# EAGLE library part SI5338Q-B-GM (library SI5338Q-B-GM)
Clock Generators & Support Products I2C control, 4-output, any frequency (< 200 MHz), any output, clock generator (2 diff, 2 SE) Source: Datasheet <https://www.skyworksinc.com/-/media/SkyWorks/SL/documents/public/data-sheets/Si5338.pdf>
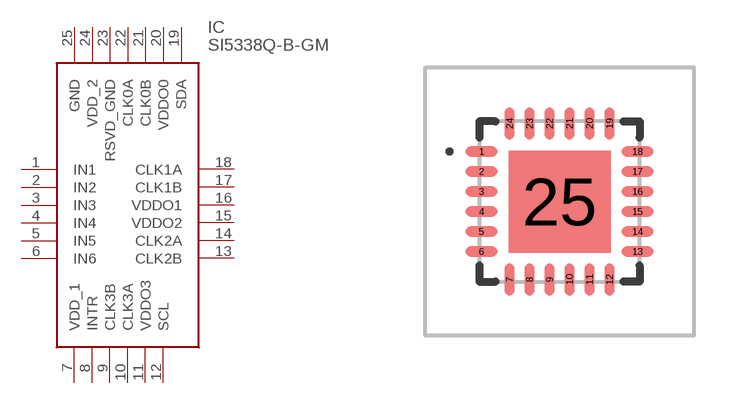
[diagram p0: symbol with the pads of SI5338QBGM; footprint SI5338QBGM]

Designator prefix IC

## SI5338Q-B-GM (Description: Clock Generators & Support Products I2C control, 4-output, any frequency (< 200 MHz), any output, clock generator (2 diff, 2 SE); Height: 0.9mm; Manufacturer_Name: Skyworks; Manufacturer_Part_Number: SI5338Q-B-GM; Mouser_Part_Number: 634-SI5338Q-B-GM; Mouser_Price-Stock: https://www.mouser.co.uk/ProductDetail/Skyworks-Solutions-Inc/SI5338Q-B-GM?qs=gjQ0PIzz%2F1MzmGBnBCHNRg%3D%3D)  [SI5338QBGM]
1  IN1
2  IN2
3  IN3
4  IN4
5  IN5
6  IN6
7  VDD_1
8  INTR
9  CLK3B
10  CLK3A
11  VDDO3
12  SCL
13  CLK2B
14  CLK2A
15  VDDO2
16  VDDO1
17  CLK1B
18  CLK1A
19  SDA
20  VDDO0
21  CLK0B
22  CLK0A
23  RSVD_GND
24  VDD_2
25  GND

## Footprint SI5338QBGM (pad centres in mm)
24-Lead QFN_2025-1.1
smd 0.8 x 0.25: 1 -1.95,1.25; 2 -1.95,0.75; 3 -1.95,0.25; 4 -1.95,-0.25; 5 -1.95,-0.75; 6 -1.95,-1.25; 13 1.95,-1.25; 14 1.95,-0.75; 15 1.95,-0.25; 16 1.95,0.25; 17 1.95,0.75; 18 1.95,1.25
smd 0.25 x 0.8: 7 -1.25,-1.95; 8 -0.75,-1.95; 9 -0.25,-1.95; 10 0.25,-1.95; 11 0.75,-1.95; 12 1.25,-1.95; 19 1.25,1.95; 20 0.75,1.95; 21 0.25,1.95; 22 -0.25,1.95; 23 -0.75,1.95; 24 -1.25,1.95
smd 2.55 x 2.55: 25 0,0